# Altium footprint library DRV8701_DualMotorDriver V1.1.PcbLib: 84 footprints (part 2 of 6)
Each footprint in its own frame and in the unit in brackets; x right, y up, seen from the top. Pads: shape width x height; smd on the part's side, far side on the other; paste and mask are expansions set on the pad; w line width, h text height; cw(c..) or ccw(c..) is an arc to the next point about the centre after c.
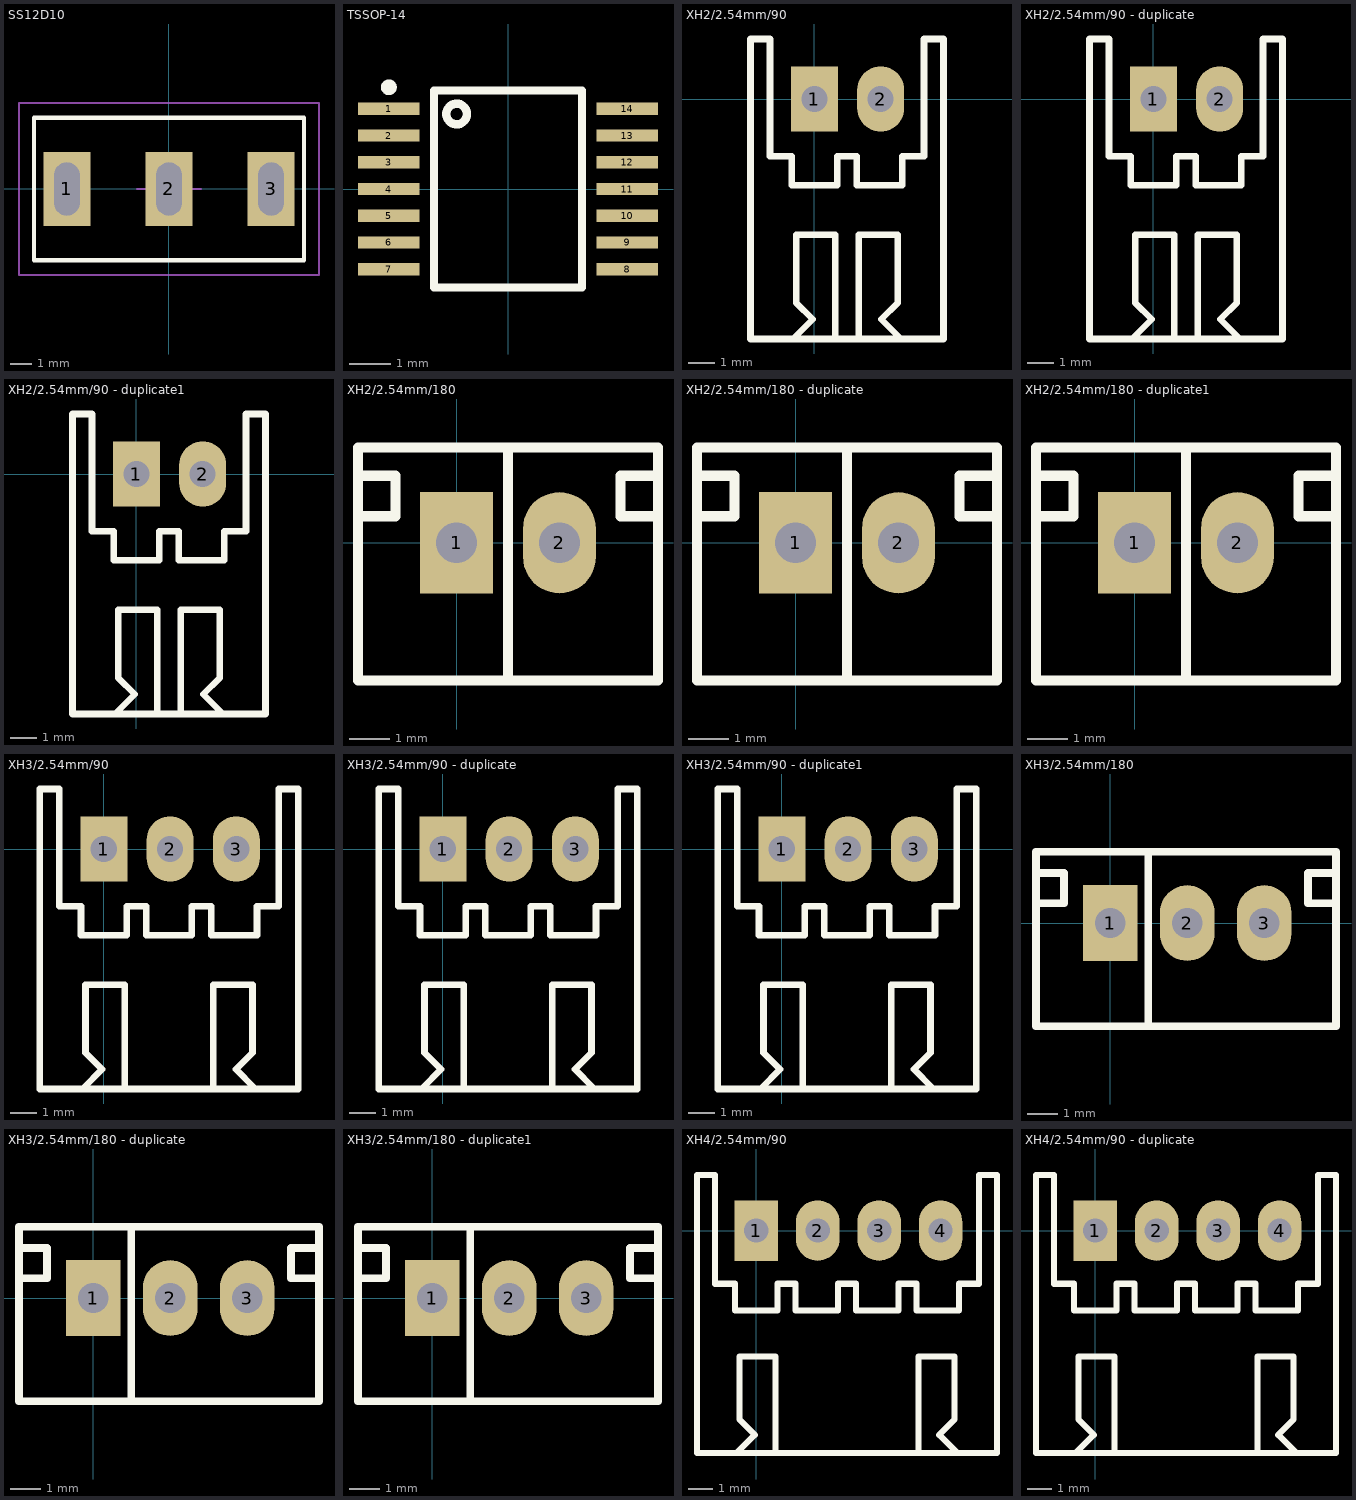
[diagram p1: the footprints below, top view; thin cyan lines are the x and y axes]

## SS12D10 [mm]
pads (3):
  rect 2.2x3.5 hole 1.2 slot 2.5 at 90 deg mask+0.07: 1(-4.8,0) 2(0,0) 3(4.8,0)
Top Overlay:
  lines w0.2: -6.35,-3.35 6.35,-3.35 6.35,3.35 -6.35,3.35 -6.35,-3.3
Mechanical 15:
  circle w0.1: c0,0 r0.813
  lines w0.1: -1.5,0 1.5,0 ; 0,-1.5 0,1.5 ; -7.05,-4.05 -7.05,4.05 7.05,4.05 7.05,-4.05 -7.05,-4.05
3D body "ms-13aap1.stp": height 12.5, standoff -5.4, extent -6.4,-3.3 6.35,3.8

## TSSOP-14 [mm]
pads (14):
  rect 1.5x0.3 smd mask+0.07: 1(-2.9,1.95) 2(-2.9,1.3) 3(-2.9,0.65) 4(-2.9,0) 5(-2.9,-0.65) 6(-2.9,-1.3) 7(-2.9,-1.95) 8(2.9,-1.95) 9(2.9,-1.3) 10(2.9,-0.65) 11(2.9,0) 12(2.9,0.65) 13(2.9,1.3) 14(2.9,1.95)
Top Overlay:
  circle w0.203: c-1.25,1.825 r0.251
  circle w0.203: c-2.9,2.475 r0.092
  lines w0.2: -1.8,-2.4 1.8,-2.4 1.8,2.4 -1.8,2.4 -1.8,-2.4
3D body "TSSOP14.stp": height 1.13, standoff 0, extent -3.2,-2.5 3.2,2.5

## XH2/2.54mm/90 [mm]
pads (2):
  rect 1.8x2.5 hole 1: 1(0,0)
  oval 1.8x2.5 hole 1: 2(2.54,0)
Top Overlay:
  lines w0.254: -0.79,-9.172 -0.064,-8.445 -0.7,-7.809 -0.7,-5.2 0.8,-5.2 0.8,-9.2 ; 1.7,-9.2 1.7,-5.2 3.2,-5.2 3.2,-7.809 2.564,-8.445 3.29,-9.172 ; -2.45,-9.2 4.95,-9.2 4.95,2.3 4.2,2.3 4.2,-2.2 3.375,-2.2 3.375,-3.3 1.625,-3.3 1.625,-2.2 0.875,-2.2 0.875,-3.3 -0.875,-3.3 -0.875,-2.2 -1.7,-2.2 -1.7,2.3 -2.45,2.3 -2.45,-9.2
3D body "JST-S2B-XH-A.STEP": height 6.1, standoff -3.4, extent -2.45,-9.2 4.95,2.3

## XH2/2.54mm/90 - duplicate [mm]
pads (2):
  rect 1.8x2.5 hole 1: 1(0,0)
  oval 1.8x2.5 hole 1: 2(2.54,0)
Top Overlay:
  lines w0.254: -0.79,-9.172 -0.064,-8.445 -0.7,-7.809 -0.7,-5.2 0.8,-5.2 0.8,-9.2 ; 1.7,-9.2 1.7,-5.2 3.2,-5.2 3.2,-7.809 2.564,-8.445 3.29,-9.172 ; -2.45,-9.2 -2.45,2.3 -1.7,2.3 -1.7,-2.2 -0.875,-2.2 -0.875,-3.3 0.875,-3.3 0.875,-2.2 1.625,-2.2 1.625,-3.3 3.375,-3.3 3.375,-2.2 4.2,-2.2 4.2,2.3 4.95,2.3 4.95,-9.2 -2.45,-9.2
3D body "JST-S2B-XH-A.STEP": height 6.1, standoff -3.4, extent -2.45,-9.2 4.95,2.3

## XH2/2.54mm/90 - duplicate1 [mm]
pads (2):
  rect 1.8x2.5 hole 1: 1(0,0)
  oval 1.8x2.5 hole 1: 2(2.54,0)
Top Overlay:
  lines w0.254: -0.79,-9.172 -0.064,-8.445 -0.7,-7.809 -0.7,-5.2 0.8,-5.2 0.8,-9.2 ; 1.7,-9.2 1.7,-5.2 3.2,-5.2 3.2,-7.809 2.564,-8.445 3.29,-9.172 ; -2.45,-9.2 4.95,-9.2 4.95,2.3 4.2,2.3 4.2,-2.2 3.375,-2.2 3.375,-3.3 1.625,-3.3 1.625,-2.2 0.875,-2.2 0.875,-3.3 -0.875,-3.3 -0.875,-2.2 -1.7,-2.2 -1.7,2.3 -2.45,2.3 -2.45,-9.2
3D body "JST-S2B-XH-A.STEP": height 6.1, standoff -3.4, extent -2.45,-9.2 4.95,2.3

## XH2/2.54mm/180 [mm]
pads (2):
  rect 1.8x2.5 hole 1: 1(0,0)
  oval 1.8x2.5 hole 1: 2(2.54,0)
Top Overlay:
  lines w0.254: -2.43,0.65 -1.504,0.65 -1.504,1.65 -2.43,1.65 ; 1.27,-3.4 1.27,2.35 ; 4.97,0.65 4.044,0.65 4.044,1.65 4.97,1.65 ; -2.43,-3.4 4.97,-3.4 4.97,2.35 -2.43,2.35 -2.43,-3.4
3D body "JST-B2B-XH-A.STEP": height 7, standoff -3.4, extent -2.43,-3.4 4.97,2.35

## XH2/2.54mm/180 - duplicate [mm]
pads (2):
  rect 1.8x2.5 hole 1: 1(0,0)
  oval 1.8x2.5 hole 1: 2(2.54,0)
Top Overlay:
  lines w0.254: -2.43,0.65 -1.504,0.65 -1.504,1.65 -2.43,1.65 ; 1.27,-3.4 1.27,2.35 ; 4.97,0.65 4.044,0.65 4.044,1.65 4.97,1.65 ; -2.43,-3.4 4.97,-3.4 4.97,2.35 -2.43,2.35 -2.43,-3.4
3D body "JST-B2B-XH-A.STEP": height 7, standoff -3.4, extent -2.43,-3.4 4.97,2.35

## XH2/2.54mm/180 - duplicate1 [mm]
pads (2):
  rect 1.8x2.5 hole 1: 1(0,0)
  oval 1.8x2.5 hole 1: 2(2.54,0)
Top Overlay:
  lines w0.254: -2.43,0.65 -1.504,0.65 -1.504,1.65 -2.43,1.65 ; 1.27,-3.4 1.27,2.35 ; 4.97,0.65 4.044,0.65 4.044,1.65 4.97,1.65 ; -2.43,-3.4 -2.43,2.35 4.97,2.35 4.97,-3.4 -2.43,-3.4
3D body "JST-B2B-XH-A.STEP": height 7, standoff -3.4, extent -2.43,-3.4 4.97,2.35

## XH3/2.54mm/90 [mm]
pads (3):
  rect 1.8x2.5 hole 1: 1(0,0)
  oval 1.8x2.5 hole 1: 2(2.54,0) 3(5.08,0)
Top Overlay:
  lines w0.254: -0.79,-9.172 -0.064,-8.445 -0.7,-7.809 -0.7,-5.2 0.8,-5.2 0.8,-9.2 ; 4.2,-9.2 4.2,-5.2 5.7,-5.2 5.7,-7.809 5.064,-8.445 5.79,-9.172 ; -2.45,-9.2 -2.45,2.3 -1.7,2.3 -1.7,-2.2 -0.875,-2.2 -0.875,-3.3 0.875,-3.3 0.875,-2.2 1.625,-2.2 1.625,-3.3 3.375,-3.3 3.375,-2.2 4.125,-2.2 4.125,-3.3 5.875,-3.3 5.875,-2.2 6.7,-2.2 6.7,2.3 7.45,2.3 7.45,-9.2 -2.45,-9.2
3D body "JST-S3B-XH-A.STEP": height 6.1, standoff -3.4, extent -2.45,-9.2 7.45,2.3

## XH3/2.54mm/90 - duplicate [mm]
pads (3):
  rect 1.8x2.5 hole 1: 1(0,0)
  oval 1.8x2.5 hole 1: 2(2.54,0) 3(5.08,0)
Top Overlay:
  lines w0.254: -0.79,-9.172 -0.064,-8.445 -0.7,-7.809 -0.7,-5.2 0.8,-5.2 0.8,-9.2 ; 4.2,-9.2 4.2,-5.2 5.7,-5.2 5.7,-7.809 5.064,-8.445 5.79,-9.172 ; -2.45,-9.2 -2.45,2.3 -1.7,2.3 -1.7,-2.2 -0.875,-2.2 -0.875,-3.3 0.875,-3.3 0.875,-2.2 1.625,-2.2 1.625,-3.3 3.375,-3.3 3.375,-2.2 4.125,-2.2 4.125,-3.3 5.875,-3.3 5.875,-2.2 6.7,-2.2 6.7,2.3 7.45,2.3 7.45,-9.2 -2.45,-9.2
3D body "JST-S3B-XH-A.STEP": height 6.1, standoff -3.4, extent -2.45,-9.2 7.45,2.3

## XH3/2.54mm/90 - duplicate1 [mm]
pads (3):
  rect 1.8x2.5 hole 1: 1(0,0)
  oval 1.8x2.5 hole 1: 2(2.54,0) 3(5.08,0)
Top Overlay:
  lines w0.254: -0.79,-9.172 -0.064,-8.445 -0.7,-7.809 -0.7,-5.2 0.8,-5.2 0.8,-9.2 ; 4.2,-9.2 4.2,-5.2 5.7,-5.2 5.7,-7.809 5.064,-8.445 5.79,-9.172 ; -2.45,-9.2 7.45,-9.2 7.45,2.3 6.7,2.3 6.7,-2.2 5.875,-2.2 5.875,-3.3 4.125,-3.3 4.125,-2.2 3.375,-2.2 3.375,-3.3 1.625,-3.3 1.625,-2.2 0.875,-2.2 0.875,-3.3 -0.875,-3.3 -0.875,-2.2 -1.7,-2.2 -1.7,2.3 -2.45,2.3 -2.45,-9.2
3D body "JST-S3B-XH-A.STEP": height 6.1, standoff -3.4, extent -2.45,-9.2 7.45,2.3

## XH3/2.54mm/180 [mm]
pads (3):
  rect 1.8x2.5 hole 1: 1(0,0)
  oval 1.8x2.5 hole 1: 2(2.54,0) 3(5.08,0)
Top Overlay:
  lines w0.254: -2.45,0.65 -1.524,0.65 -1.524,1.65 -2.45,1.65 ; 1.25,-3.4 1.25,2.35 ; 7.45,0.65 6.524,0.65 6.524,1.65 7.45,1.65 ; -2.45,-3.4 -2.45,2.35 7.45,2.35 7.45,-3.4 -2.45,-3.4
3D body "JST-B3B-XH-A.STEP": height 7, standoff -3.4, extent -2.45,-3.4 7.45,2.35

## XH3/2.54mm/180 - duplicate [mm]
pads (3):
  rect 1.8x2.5 hole 1: 1(0,0)
  oval 1.8x2.5 hole 1: 2(2.54,0) 3(5.08,0)
Top Overlay:
  lines w0.254: -2.45,0.65 -1.524,0.65 -1.524,1.65 -2.45,1.65 ; 1.25,-3.4 1.25,2.35 ; 7.45,0.65 6.524,0.65 6.524,1.65 7.45,1.65 ; -2.45,-3.4 -2.45,2.35 7.45,2.35 7.45,-3.4 -2.45,-3.4
3D body "JST-B3B-XH-A.STEP": height 7, standoff -3.4, extent -2.45,-3.4 7.45,2.35

## XH3/2.54mm/180 - duplicate1 [mm]
pads (3):
  rect 1.8x2.5 hole 1: 1(0,0)
  oval 1.8x2.5 hole 1: 2(2.54,0) 3(5.08,0)
Top Overlay:
  lines w0.254: -2.45,0.65 -1.524,0.65 -1.524,1.65 -2.45,1.65 ; 1.25,-3.4 1.25,2.35 ; 7.45,0.65 6.524,0.65 6.524,1.65 7.45,1.65 ; -2.45,-3.4 7.45,-3.4 7.45,2.35 -2.45,2.35 -2.45,-3.4
3D body "JST-B3B-XH-A.STEP": height 7, standoff -3.4, extent -2.45,-3.4 7.45,2.35

## XH4/2.54mm/90 [mm]
pads (4):
  rect 1.8x2.5 hole 1: 1(0,0)
  oval 1.8x2.5 hole 1: 2(2.54,0) 3(5.08,0) 4(7.62,0)
Top Overlay:
  lines w0.254: -0.79,-9.172 -0.064,-8.445 -0.7,-7.809 -0.7,-5.2 0.8,-5.2 0.8,-9.2 ; 6.7,-9.2 6.7,-5.2 8.2,-5.2 8.2,-7.809 7.564,-8.445 8.29,-9.172 ; -2.45,-9.2 9.95,-9.2 9.95,2.3 9.2,2.3 9.2,-2.2 8.375,-2.2 8.375,-3.3 6.625,-3.3 6.625,-2.2 5.875,-2.2 5.875,-3.3 4.125,-3.3 4.125,-2.2 3.375,-2.2 3.375,-3.3 1.625,-3.3 1.625,-2.2 0.875,-2.2 0.875,-3.3 -0.875,-3.3 -0.875,-2.2 -1.7,-2.2 -1.7,2.3 -2.45,2.3 -2.45,-9.2
3D body "JST-S4B-XH-A.STEP": height 6.1, standoff -3.4, extent -2.45,-9.2 9.95,2.3

## XH4/2.54mm/90 - duplicate [mm]
pads (4):
  rect 1.8x2.5 hole 1: 1(0,0)
  oval 1.8x2.5 hole 1: 2(2.54,0) 3(5.08,0) 4(7.62,0)
Top Overlay:
  lines w0.254: -0.79,-9.172 -0.064,-8.445 -0.7,-7.809 -0.7,-5.2 0.8,-5.2 0.8,-9.2 ; 6.7,-9.2 6.7,-5.2 8.2,-5.2 8.2,-7.809 7.564,-8.445 8.29,-9.172 ; -2.45,-9.2 9.95,-9.2 9.95,2.3 9.2,2.3 9.2,-2.2 8.375,-2.2 8.375,-3.3 6.625,-3.3 6.625,-2.2 5.875,-2.2 5.875,-3.3 4.125,-3.3 4.125,-2.2 3.375,-2.2 3.375,-3.3 1.625,-3.3 1.625,-2.2 0.875,-2.2 0.875,-3.3 -0.875,-3.3 -0.875,-2.2 -1.7,-2.2 -1.7,2.3 -2.45,2.3 -2.45,-9.2
3D body "JST-S4B-XH-A.STEP": height 6.1, standoff -3.4, extent -2.45,-9.2 9.95,2.3